# Altium footprint library Telma_SimBox_T0_00.PcbLib: 26 footprints (part 1 of 2)
Each footprint in its own frame and in the unit in brackets; x right, y up, seen from the top. Pads: shape width x height; smd on the part's side, far side on the other; paste and mask are expansions set on the pad; w line width, h text height; cw(c..) or ccw(c..) is an arc to the next point about the centre after c.
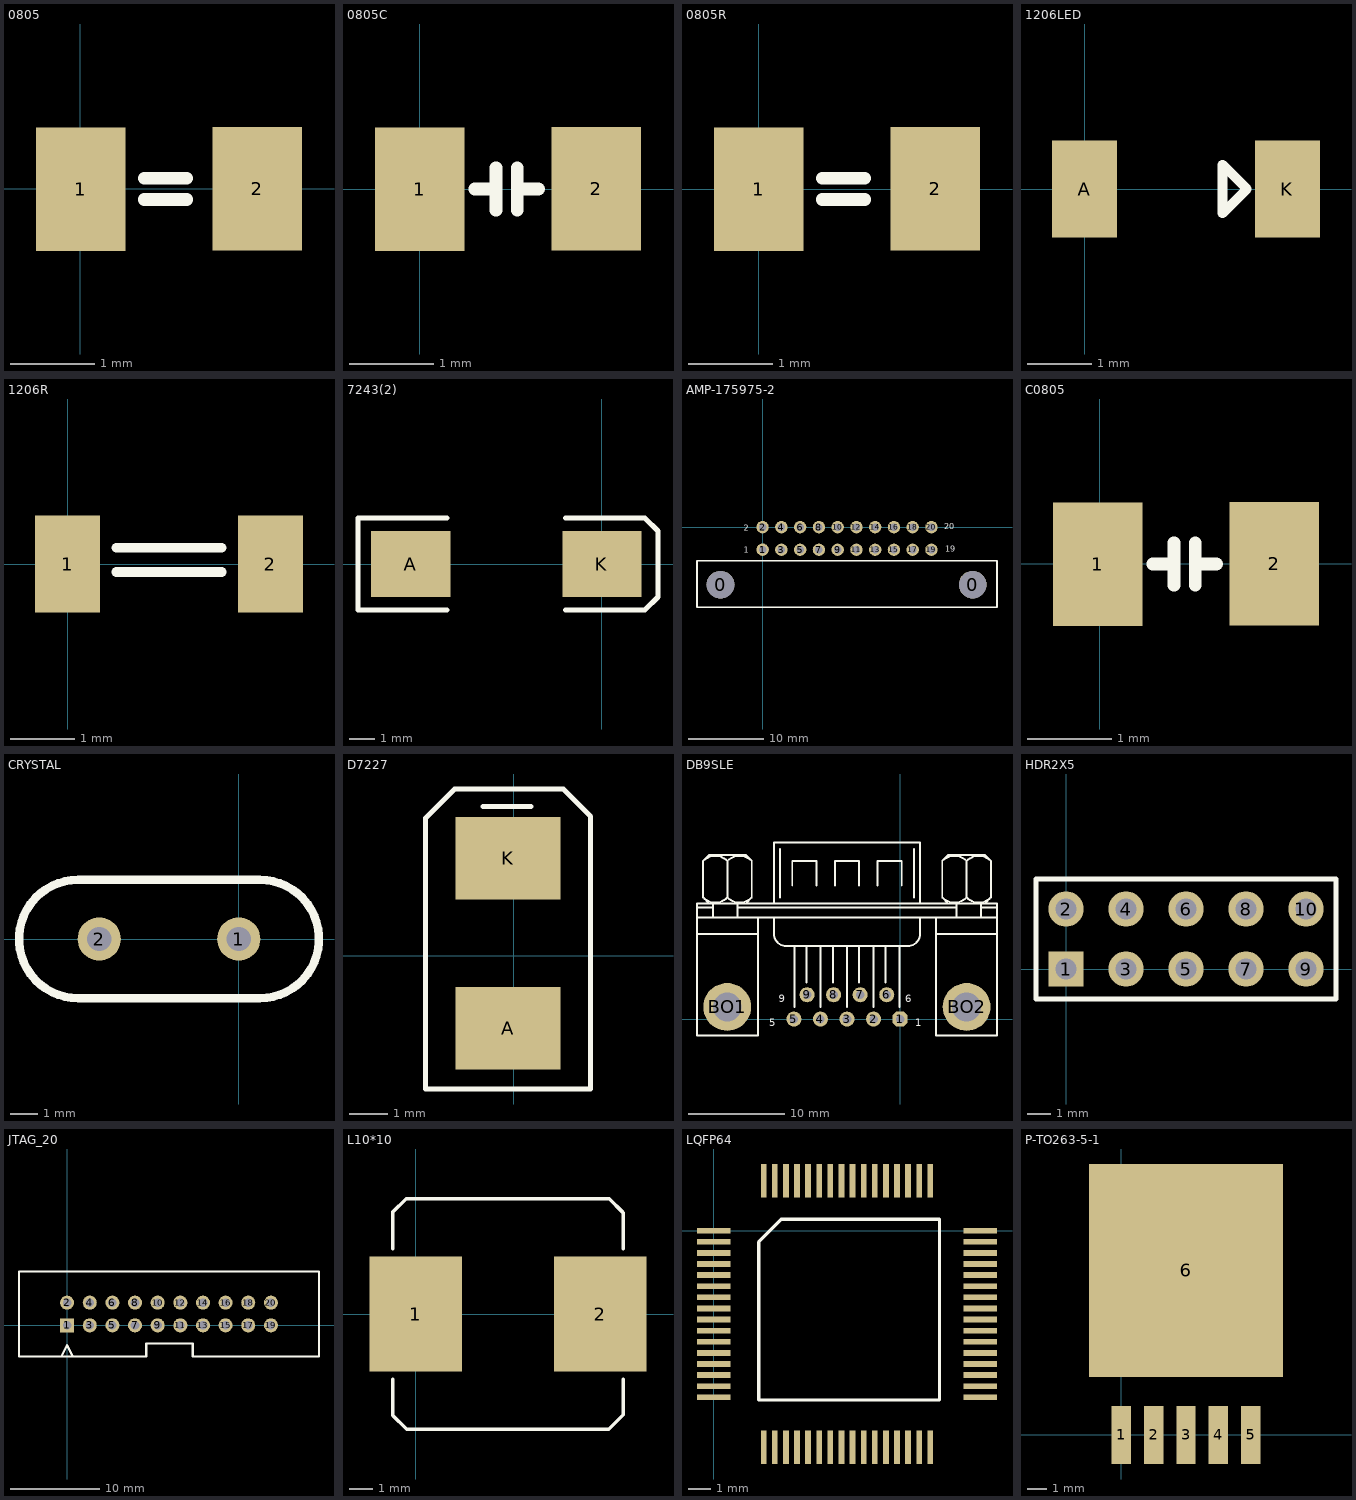
[diagram p0: the footprints below, top view; thin cyan lines are the x and y axes]

## 0805 [mil]
height 759.84
pads (2):
  rect 42x58 smd: 1(0.15,-0.08) 2(83.15,0)
Top Overlay:
  lines w6: 30,-5 50,-5 ; 30,5 50,5
3D body: height 21.65, standoff 0, extent 3.63,-24.8 82.37,24.81

## 0805C [mil]
height 43.31
pads (2):
  rect 42x58 smd: 1(0,0) 2(83,0.08)
Top Overlay:
  lines w6: 25.85,0.08 35.85,0.08 ; 35.85,-9.92 35.85,10.08 ; 45.85,-9.92 45.85,10.08 ; 45.85,0.08 55.85,0.08
3D body: height 36.22, standoff 0, extent 3.28,-25.13 82.42,24.08

## 0805R [mil]
height 43.31
pads (2):
  rect 42x58 smd: 1(0,0) 2(83,0.08)
Top Overlay:
  lines w6: 29.85,-4.92 49.85,-4.92 ; 29.85,5.08 49.85,5.08
3D body: height 21.65, standoff 0, extent 3.48,-24.72 82.22,24.89

## 1206LED [mil]
height 759.84
pads (2):
  rect 40x60 smd: A(0,0) K(125,0)
Top Overlay:
  lines w6: 85,-15 100,0 85,15 85,-15

## 1206R [mil]
pads (2):
  rect 40x60 smd: 1(0,0) 2(125,0)
Top Overlay:
  lines w6: 30,-5 95,-5 ; 30,10 95,10
3D body: height 28.54, standoff -28.54, extent -5.9,-28.47 131.9,28.47

## 7243(2) [mil]
height 759.84
pads (2):
  rect 120x100 smd: A(-290,0) K(0,0)
Top Overlay:
  lines w7.87: -235,-70 -370,-70 -370,70 -235,70 ; -55,-70 65,-70 85,-50 85,50 65,70 -55,70

## AMP-175975-2 [mil]
height 501.97
pads (22):
  round 145 hole 145: 0(-220.87,-301.65) 0(1102.03,-301.65)
  round 65 hole 40: 1(0.18,-118.29) 2(0,0) 3(98.61,-118.52) 4(98.61,-0.18) 5(197.03,-118.52) 6(197.03,-0.18) 7(295.46,-118.52) 8(295.46,-0.18) 9(393.88,-118.52) 10(393.88,-0.18) 11(492.31,-118.52) 12(492.31,-0.18) 13(590.73,-118.52) 14(590.73,-0.18) 15(689.16,-118.52) 16(689.16,-0.18) 17(787.59,-118.52) 18(787.59,-0.18) 19(886.01,-118.52) 20(886.01,-0.18)
Top Overlay:
  lines w8: -344.22,-251.22 -344.22,-177.05 1229.95,-177.05 1229.95,-419.13 -344.22,-419.13 -344.22,-251
  text "2" at -99.63,-18.3 h30
  text "1" at -98,-134 h30
  text "20" at 954,-11 h30
  text "19" at 959,-130 h30
3D body: height 682.68, standoff -128.35, extent -347.4,-880 1227.4,6.61

## C0805 [mil]
height 759.84
pads (2):
  rect 42x58 smd: 1(-0.85,-0.08) 2(82.15,0)
Top Overlay:
  lines w6: 25,0 35,0 ; 35,-10 35,10 ; 45,-10 45,10 ; 45,0 55,0
3D body: height 36.22, standoff 0, extent 2.43,-25.21 81.57,24

## CRYSTAL [mil]
height 759.84
pads (2):
  round 62 hole 35: 1(0,0) 2(-200,0)
Top Overlay:
  lines w12: -230,-85 cw(c-230,0) -230,85 30,85 cw(c30,0) 30,-85 -230,-85

## D7227 [mil]
pads (2):
  rect 108x85 smd: A(-6,-74.5) K(-6,100.5)
Top Overlay:
  lines w5: -91,121 -91,142 ; -32,154 18,154 ; -91,142 -61,172 51,172 79,144 79,-137 -91,-137 -91,142

## DB9SLE [mil]
pads (11):
  oct 62x62 hole 35: 1(0,0)
  round 62 hole 35: 2(-109.17,0) 3(-218.33,0) 4(-327.5,0) 5(-436.67,0) 6(-55,100) 7(-164.17,100) 8(-273.33,100) 9(-382.5,100)
  round 196.67 hole 118.33: BO1(-710.83,50) BO2(273.33,50)
Top Overlay:
  lines w8: -835,350 -585,350 ; -835,416.67 398.33,416.67 ; -835,458.33 -768.33,458.33 ; -810.09,499.91 ccw(c-760,550) -709.91,499.91 ; -810.09,650.09 cw(c-760,600) -709.91,650.09 ; -785,475 -810,500 -810,650 -785,675 -635,675 -610,650 -610,500 -635,475 ; -768.33,416.67 -768.33,475 ; -710.09,499.91 ccw(c-660,550) -609.91,499.91 ; -710.09,650.09 cw(c-660,600) -609.91,650.09 ; -710,500 -710,650 ; -668.33,416.67 -668.33,475 ; -668.33,458.33 231.67,458.33 ; -585,416.67 -585,-66.67 -835,-66.67 -835,475 398.33,475 398.33,-66.67 148.33,-66.67 148.33,416.67 ; -518.33,416.67 -518.33,350 ccw(c-468.33,350) -468.33,300 31.67,300 ccw(c31.67,350) 81.67,350 81.67,416.67 ; -518.33,475 -518.33,725 81.67,725 81.67,475 ; -493.33,500 -493.33,700 ; -443.33,550 -443.33,650 -343.33,650 -343.33,550 ; -435,50 -435,300 ; -385,150 -385,300 ; -326.67,50 -326.67,300 ; -276.67,150 -276.67,300 ; -268.33,550 -268.33,650 -168.33,650 -168.33,550 ; -218.33,50 -218.33,300 ; -168.33,150 -168.33,300 ; -110,50 -110,300 ; -93.33,550 -93.33,650 6.67,650 6.67,550 ; -60,150 -60,300 ; -1.67,50 -1.67,300 ; 56.67,500 56.67,700 ; 148.33,350 398.33,350 ; 173.25,499.91 ccw(c223.33,550) 273.42,499.91 ; 173.25,650.09 cw(c223.33,600) 273.42,650.09 ; 198.33,475 173.33,500 173.33,650 198.33,675 348.33,675 373.33,650 373.33,500 348.33,475 ; 231.67,416.67 231.67,475 ; 273.25,499.91 ccw(c323.33,550) 373.42,499.91 ; 273.25,650.09 cw(c323.33,600) 373.42,650.09 ; 273.33,500 273.33,650 ; 331.67,416.67 331.67,475 ; 331.67,458.33 398.33,458.33
  text "1" at 61.67,-30 h30
  text "6" at 21.67,70 h30
  text "5" at -538.33,-30 h30
  text "9" at -498.33,70 h30
3D body: height 494, standoff -157, extent -831,-52 385,670

## HDR2X5 [mm] "Connector; Header; 8x2 Position"
height 19.3
pads (10):
  rect 1.5x1.5 hole 0.9: 1(0,0)
  round 1.5 hole 0.9: 2(0,2.54) 3(2.54,0) 4(2.54,2.54) 5(5.08,0) 6(5.08,2.54) 7(7.62,0) 8(7.62,2.54) 9(10.16,0) 10(10.16,2.54)
Top Overlay:
  lines w0.2: -1.27,-1.27 11.43,-1.27 11.43,3.81 -1.27,3.81 -1.27,-1.27

## JTAG_20 [mil]
pads (20):
  rect 62x62 hole 38: 1(0,0)
  round 62 hole 38: 2(0,100) 3(100,0) 4(100,100) 5(200,0) 6(200,100) 7(300,0) 8(300,100) 9(400,0) 10(400,100) 11(500,0) 12(500,100) 13(600,0) 14(600,100) 15(700,0) 16(700,100) 17(800,0) 18(800,100) 19(900,0) 20(900,100)
Top Overlay:
  lines w10: -25,-137.5 0,-87.5 25,-137.5 ; -212.5,-137.5 350,-137.5 350,-80 555,-80 555,-137.5 1112.5,-137.5 1112.5,237.5 -212.5,237.5 -212.5,-137.5

## L10*10 [mm] "Inductor 10mm*10mm"
pads (2):
  rect 4x5 smd: 1(0,0) 2(8,0)
Top Overlay:
  lines w0.152: -1,-4.381 -1,-2.829 ; -1,2.829 -1,4.414 ; -0.991,4.423 -0.41,5.004 ; -0.987,-4.394 -0.406,-4.975 ; -0.414,5 8.382,5 8.962,4.42 ; -0.381,-5 8.364,-5 9,-4.364 9,-2.829 ; 9,2.829 9,4.382

## LQFP64 [mm]
pads (64):
  rect 1.5x0.26 smd: 1(0,0) 2(0,-0.5) 3(0,-1) 4(0,-1.5) 5(0,-2) 6(0,-2.5) 7(0,-3) 8(0,-3.5) 9(0,-4) 10(0,-4.5) 11(0,-5) 12(0,-5.5) 13(0,-6) 14(0,-6.5) 15(0,-7) 16(0,-7.5) 33(12,-7.5) 34(12,-7) 35(12,-6.5) 36(12,-6) 37(12,-5.5) 38(12,-5) 39(12,-4.5) 40(12,-4) 41(12,-3.5) 42(12,-3) 43(12,-2.5) 44(12,-2) 45(12,-1.5) 46(12,-1) 47(12,-0.5) 48(12,0)
  rect 0.26x1.5 smd: 17(2.25,-9.75) 18(2.75,-9.75) 19(3.25,-9.75) 20(3.75,-9.75) 21(4.25,-9.75) 22(4.75,-9.75) 23(5.25,-9.75) 24(5.75,-9.75) 25(6.25,-9.75) 26(6.75,-9.75) 27(7.25,-9.75) 28(7.75,-9.75) 29(8.25,-9.75) 30(8.75,-9.75) 31(9.25,-9.75) 32(9.75,-9.75) 49(9.75,2.25) 50(9.25,2.25) 51(8.75,2.25) 52(8.25,2.25) 53(7.75,2.25) 54(7.25,2.25) 55(6.75,2.25) 56(6.25,2.25) 57(5.75,2.25) 58(5.25,2.25) 59(4.75,2.25) 60(4.25,2.25) 61(3.75,2.25) 62(3.25,2.25) 63(2.75,2.25) 64(2.25,2.25)
Top Overlay:
  lines w0.15: 2.032,-7.62 10.16,-7.62 10.16,0.508 3.048,0.508 2.032,-0.508 2.032,-7.62
3D body: height 1.53, standoff 0.03, extent -0.031,-9.81 11.969,2.19

## P-TO263-5-1 [mil]
height 759.84
pads (6):
  rect 40x120 smd: 1(0,0) 2(67,0) 3(134,0) 4(201,0) 5(268,0)
  rect 400x440 smd: 6(134,340)